# EAGLE library part DP83848 (library at91sam7x-ek)
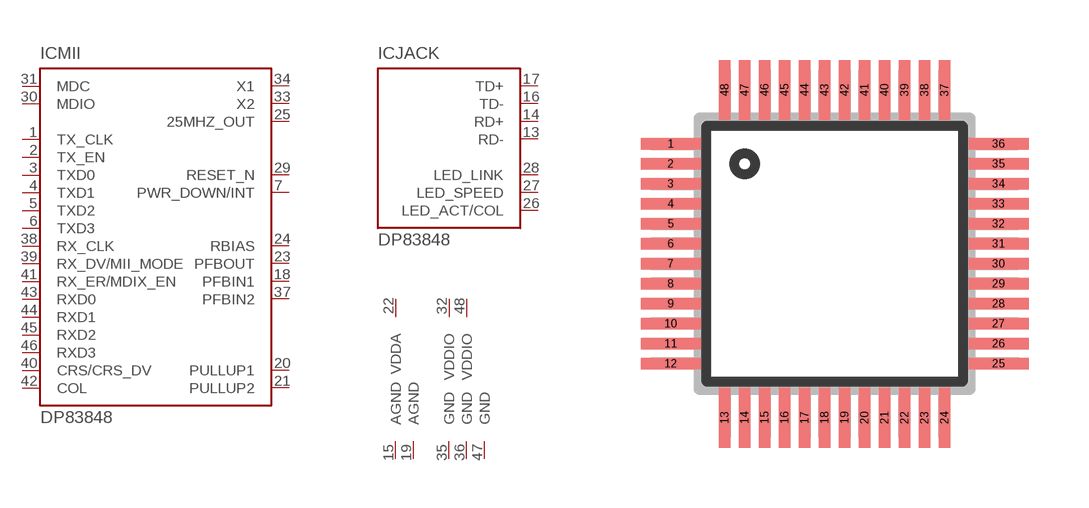
[diagram p1: symbol with the pads of LQFP48; footprint LQFP48]

Designator prefix IC; gates MII=DP83848-MII JACK=DP83848-JACK G$3=VDDA G$4=AGND G$5=AGND G$6=GND G$7=GND G$9=GND G$10=VDDIO G$11=VDDIO

## DP83848  [LQFP48]
1  MII:TX_CLK  out
2  MII:TX_EN  in
3  MII:TXD0  in
4  MII:TXD1  in
5  MII:TXD2  in
6  MII:TXD3  in
7  MII:PWR_DOWN/INT
13  JACK:RD-
14  JACK:RD+
15  G$4:AGND  pwr
16  JACK:TD-
17  JACK:TD+
18  MII:PFBIN1  in
19  G$5:AGND  pwr
20  MII:PULLUP1
21  MII:PULLUP2
22  G$3:VDDA  pwr
23  MII:PFBOUT  out
24  MII:RBIAS  in
25  MII:25MHZ_OUT  out
26  JACK:LED_ACT/COL  out
27  JACK:LED_SPEED  out
28  JACK:LED_LINK  out
29  MII:RESET_N  in
30  MII:MDIO
31  MII:MDC  in
32  G$10:VDDIO  pwr
33  MII:X2  out
34  MII:X1  in
35  G$6:GND  pwr
36  G$7:GND  pwr
37  MII:PFBIN2  in
38  MII:RX_CLK  out
39  MII:RX_DV/MII_MODE  out
40  MII:CRS/CRS_DV  out
41  MII:RX_ER/MDIX_EN  out
42  MII:COL  out
43  MII:RXD0  out
44  MII:RXD1  out
45  MII:RXD2  out
46  MII:RXD3  out
47  G$9:GND  pwr
48  G$11:VDDIO  pwr

## Footprint LQFP48 (pad centres in mm)
QFP48 shrink quad flat pack, square
smd 1.5 x 0.297: 1 -4.1,2.75; 2 -4.1,2.25; 3 -4.1,1.75; 4 -4.1,1.25; 5 -4.1,0.75; 6 -4.1,0.25; 7 -4.1,-0.25; 8 -4.1,-0.75; 9 -4.1,-1.25; 10 -4.1,-1.75; 11 -4.1,-2.25; 12 -4.1,-2.75; 25 4.1,-2.75; 26 4.1,-2.25; 27 4.1,-1.75; 28 4.1,-1.25; 29 4.1,-0.75; 30 4.1,-0.25; 31 4.1,0.25; 32 4.1,0.75; 33 4.1,1.25; 34 4.1,1.75; 35 4.1,2.25; 36 4.1,2.75
smd 0.297 x 1.5: 13 -2.75,-4.1; 14 -2.25,-4.1; 15 -1.75,-4.1; 16 -1.25,-4.1; 17 -0.75,-4.1; 18 -0.25,-4.1; 19 0.25,-4.1; 20 0.75,-4.1; 21 1.25,-4.1; 22 1.75,-4.1; 23 2.25,-4.1; 24 2.75,-4.1; 37 2.75,4.1; 38 2.25,4.1; 39 1.75,4.1; 40 1.25,4.1; 41 0.75,4.1; 42 0.25,4.1; 43 -0.25,4.1; 44 -0.75,4.1; 45 -1.25,4.1; 46 -1.75,4.1; 47 -2.25,4.1; 48 -2.75,4.1